# EAGLE library part SST25WF040 (library Moo1.2)
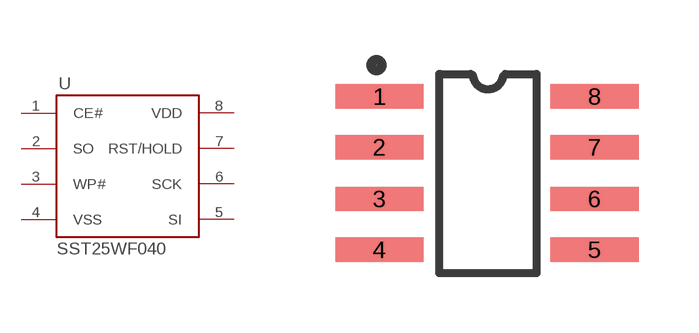
[diagram p4: symbol with the pads of SOIC8_1PRIMARY; footprint SOIC8_1PRIMARY]

Designator prefix -

## SST25WF040  [SOIC8_1PRIMARY]
1  CE#
2  SO
3  WP#
4  VSS
5  SI
6  SCK
7  RST/HOLD
8  VDD

## Footprint SOIC8_1PRIMARY (pad centres in mm)
Original name SOIC8
smd 2.21 x 0.61: 1 -2.718,1.93; 2 -2.718,0.66; 3 -2.718,-0.635; 4 -2.718,-1.905; 5 2.667,-1.905; 6 2.667,-0.635; 7 2.667,0.66; 8 2.667,1.93